# Altium footprint library SFM-125-02-X-DH.PcbLib: 1 footprints
Each footprint in its own frame and in the unit in brackets; x right, y up, seen from the top. Pads: shape width x height; smd on the part's side, far side on the other; paste and mask are expansions set on the pad; w line width, h text height; cw(c..) or ccw(c..) is an arc to the next point about the centre after c.
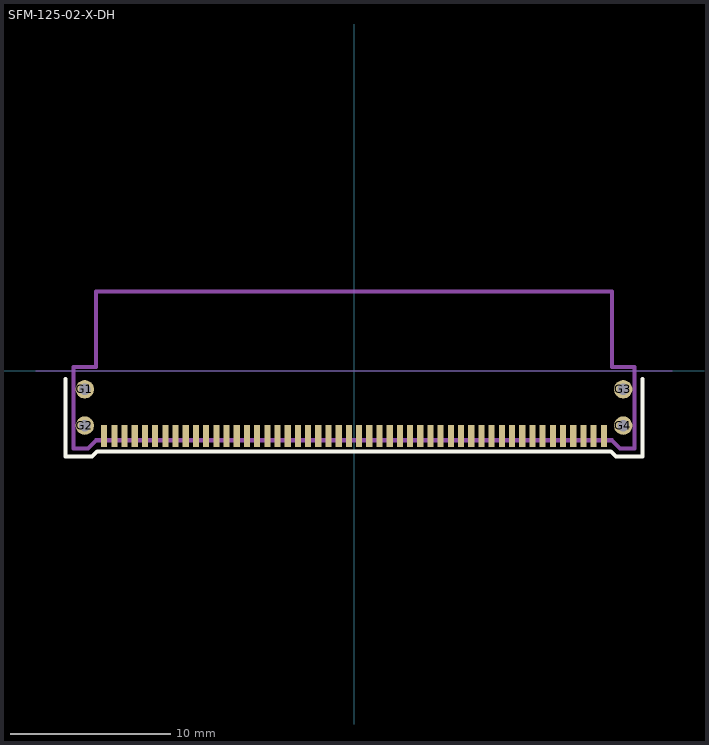
[diagram p0: the footprint, top view; thin cyan lines are the x and y axes]

## SFM-125-02-X-DH [mil]
pads (54):
  rect 15x55 smd mask+2: 1(-612.5,-159.5) 2(-587.5,-159.5) 3(-562.5,-159.5) 4(-537.5,-159.5) 5(-512.5,-159.5) 6(-487.5,-159.5) 7(-462.5,-159.5) 8(-437.5,-159.5) 9(-412.5,-159.5) 10(-387.5,-159.5) 11(-362.5,-159.5) 12(-337.5,-159.5) 13(-312.5,-159.5) 14(-287.5,-159.5) 15(-262.5,-159.5) 16(-237.5,-159.5) 17(-212.5,-159.5) 18(-187.5,-159.5) 19(-162.5,-159.5) 20(-137.5,-159.5) 21(-112.5,-159.5) 22(-87.5,-159.5) 23(-62.5,-159.5) 24(-37.5,-159.5) 25(-12.5,-159.5) 26(12.5,-159.5) 27(37.5,-159.5) 28(62.5,-159.5) 29(87.5,-159.5) 30(112.5,-159.5) 31(137.5,-159.5) 32(162.5,-159.5) 33(187.5,-159.5) 34(212.5,-159.5) 35(237.5,-159.5) 36(262.5,-159.5) 37(287.5,-159.5) 38(312.5,-159.5) 39(337.5,-159.5) 40(362.5,-159.5) 41(387.5,-159.5) 42(412.5,-159.5) 43(437.5,-159.5) 44(462.5,-159.5) 45(487.5,-159.5) 46(512.5,-159.5) 47(537.5,-159.5) 48(562.5,-159.5) 49(587.5,-159.5) 50(612.5,-159.5)
  round 45 hole 28 mask+3: G1(-660,-45) G2(-660,-134) G3(660,-45) G4(660,-134)
Top Overlay:
  lines w10: -707.5,-20 -707.5,-210 -642.5,-210 -629.5,-197 629.5,-197 642.5,-210 707.5,-210 707.5,-20
Top Paste:
  region: 715.35,-137 713.97,-126.56 709.94,-116.83 703.53,-108.47 695.17,-102.06 685.44,-98.03 675,-96.65 664.56,-98.03 654.83,-102.06 646.47,-108.47 640.06,-116.83 636.03,-126.56 634.65,-137 636.03,-147.44 640.06,-157.17 646.47,-165.53 654.83,-171.94 664.56,-175.97 675,-177.35 685.44,-175.97 695.17,-171.94 703.53,-165.53 709.94,-157.17 713.97,-147.44
  region: -634.65,-137 -636.03,-126.56 -640.06,-116.83 -646.47,-108.47 -654.83,-102.06 -664.56,-98.03 -675,-96.65 -685.44,-98.03 -695.17,-102.06 -703.53,-108.47 -709.94,-116.83 -713.97,-126.56 -715.35,-137 -713.97,-147.44 -709.94,-157.17 -703.53,-165.53 -695.17,-171.94 -685.44,-175.97 -675,-177.35 -664.56,-175.97 -654.83,-171.94 -646.47,-165.53 -640.06,-157.17 -636.03,-147.44
  region: 715.35,-42 713.97,-31.56 709.94,-21.83 703.53,-13.47 695.17,-7.06 685.44,-3.03 675,-1.65 664.56,-3.03 654.83,-7.06 646.47,-13.47 640.06,-21.83 636.03,-31.56 634.65,-42 636.03,-52.44 640.06,-62.17 646.47,-70.53 654.83,-76.94 664.56,-80.97 675,-82.35 685.44,-80.97 695.17,-76.94 703.53,-70.53 709.94,-62.17 713.97,-52.44
  region: -634.65,-42 -636.03,-31.56 -640.06,-21.83 -646.47,-13.47 -654.83,-7.06 -664.56,-3.03 -675,-1.65 -685.44,-3.03 -695.17,-7.06 -703.53,-13.47 -709.94,-21.83 -713.97,-31.56 -715.35,-42 -713.97,-52.44 -709.94,-62.17 -703.53,-70.53 -695.17,-76.94 -685.44,-80.97 -675,-82.35 -664.56,-80.97 -654.83,-76.94 -646.47,-70.53 -640.06,-62.17 -636.03,-52.44
Mechanical 1:
  lines w10: -687.5,-190 -687.5,10 -632.5,10 -632.5,195 632.5,195 632.5,10 687.5,10 687.5,-190 652.5,-190 632.5,-170 -632.5,-170 -652.5,-190 -687.5,-190
  text "J1" at -19.57,-70 h30
Mechanical 16:
  lines w1: -780,0 780,0
3D body: height 200, standoff -53, extent -687.49,-189.99 687.51,195.01